# EAGLE library part ER-OLED096 (library ER-OLED)
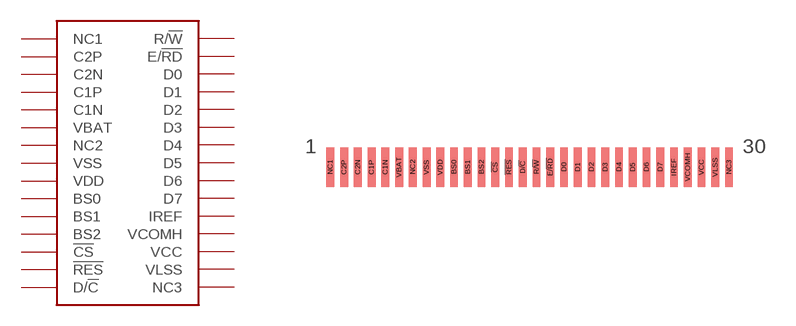
[diagram p3: symbol with the pads of ER-OLED096; footprint ER-OLED096]

Designator prefix -

## ER-OLED096  [ER-OLED096]
!CS  !CS
!RES  !RES
BS0  BS0
BS1  BS1
BS2  BS2
C1N  C1N
C1P  C1P
C2N  C2N
C2P  C2P
D0  D0
D1  D1
D2  D2
D3  D3
D4  D4
D5  D5
D6  D6
D7  D7
D/!C  D/!C
E/!RD  E/!RD
IREF  IREF
NC1  NC1
NC2  NC2
NC3  NC3
R/!W  R/!W
VBAT  VBAT
VCC  VCC
VCOMH  VCOMH
VDD  VDD
VLSS  VLSS
VSS  VSS

## Footprint ER-OLED096 (pad centres in mm)
smd 0.4 x 2: !CS -0.7,0; !RES 0,0; BS0 -2.8,0; BS1 -2.1,0; BS2 -1.4,0; C1N -6.3,0; C1P -7,0; C2N -7.7,0; C2P -8.4,0; D0 2.8,0; D1 3.5,0; D2 4.2,0; D3 4.9,0; D4 5.6,0; D5 6.3,0; D6 7,0; D7 7.7,0; D/!C 0.7,0; E/!RD 2.1,0; IREF 8.4,0; NC1 -9.1,0; NC2 -4.9,0; NC3 11.2,0; R/!W 1.4,0; VBAT -5.6,0; VCC 9.8,0; VCOMH 9.1,0; VDD -3.5,0; VLSS 10.5,0; VSS -4.2,0